# Altium integrated library DA2034-AL.IntLib: 1 symbol
Pins are listed as number, name and electrical type; pins without a type are passive.

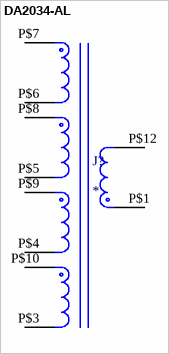
[diagram p0: symbol DA2034-AL]

## DA2034-AL
designator J?
Flyback Transformer for Linear Technology LT3750  Reference: http://www.coilcraft.com/da2032.cfm  L - 10 uH TurnsRatio Pri:Sec - 1:10 Ipeak - 10.0 A Interwinding capacitance - 128 pF DCRmax: Pri - 0.018, Sec - 1.75 Ohms; MP: DA2034-AL; Package: None; Price: None; Value: *; Availability: Unavailable
footprint DA2034-AL
pins: P$1 1, P$3 3, P$4 4, P$5 5, P$6 6, P$7 7, P$8 8, P$9 9, P$10 10, P$12 12